# Altium schematic symbol library IMTP_AD.SchLib: 6 symbols
Pins are listed as number, name and electrical type; pins without a type are passive.

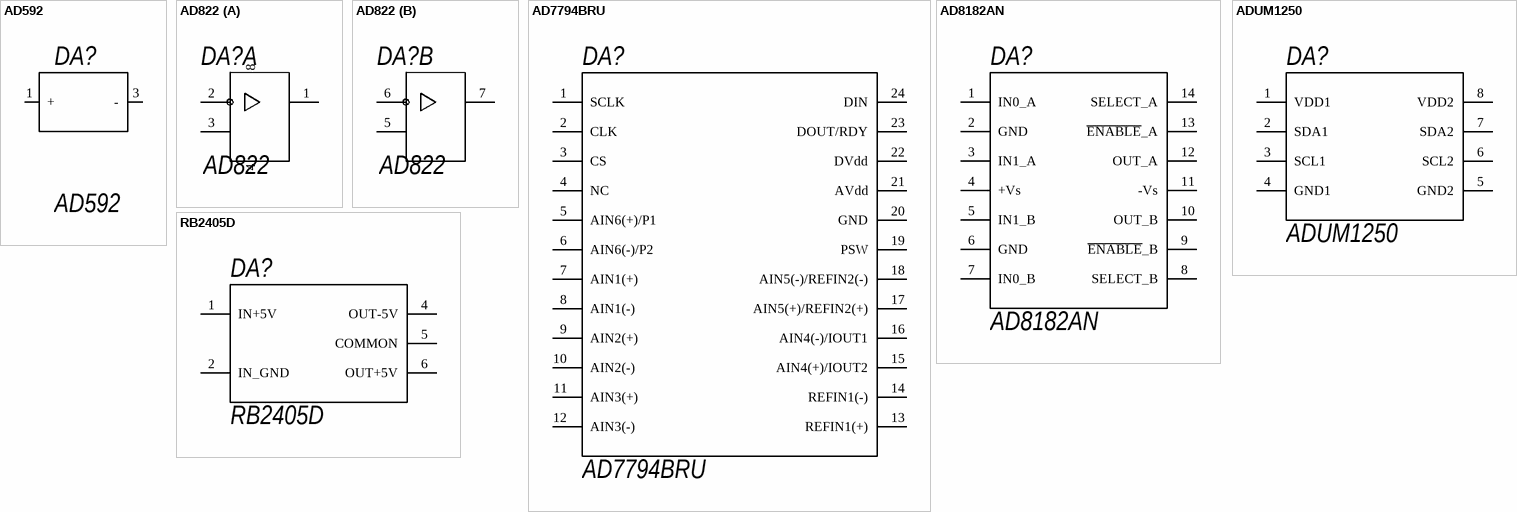
[diagram p0: symbols AD592 to RB2405D]

## AD592
designator DA?
Датчик температуры; LastRevisionDate: 25.03.2010; Name: AD592; OutComment: AD592; PackageDescription: TO-92; Publisher: IMTP FEB RAS
footprint TO-92 (TO, Flat Index; 3 In-Line, Axial Leads; Body Dia. 5.1mm; Leads 0.48 x 0.48 mm (max))
footprint FP
pins: 1 +, 2 NC hidden, 3 -

## AD822
designator DA?
6-Channel, Low Noise, Low Power, 24-Bit- ADC with On-Chip In-Amp and Reference; LastRevisionDate: 11.06.2010; Name: AD822; OutComment: AD822; PackageDescription: TSSOP-24; Publisher: IMTP FEB RAS
footprint SOJ-8
footprint MSOP (TSOP, 8-Leads, Body 3x3mm, Pitch 0.65mm, IPC High Density)
footprint DIP-8 (DIP; 8 Leads; Row Spacing 7.62 mm; Pitch 2.54 mm)
part A pins: 1, 2, 3, 4 (power), 8 (power)
part B pins: 5, 6, 7

## AD7794BRU
designator DA?
6-Channel, Low Noise, Low Power, 24-Bit- ADC with On-Chip In-Amp and Reference; LastRevisionDate: 11.06.2010; Name: AD7794BRU; OutComment: AD7794BRU; PackageDescription: TSSOP-24; Publisher: IMTP FEB RAS
footprint TSOP65P640-24AL (TSOP, 24-Leads, Body 7.8x4.4mm, Pitch 0.65mm, IPC High Density)
pins: 1 SCLK, 2 CLK, 3 CS, 4 NC, 5 AIN6(+)/P1, 6 AIN6(-)/P2, 7 AIN1(+), 8 AIN1(-), 9 AIN2(+), 10 AIN2(-), 11 AIN3(+), 12 AIN3(-), 13 REFIN1(+), 14 REFIN1(-), 15 AIN4(+)/IOUT2, 16 AIN4(-)/IOUT1, 17 AIN5(+)/REFIN2(+), 18 AIN5(-)/REFIN2(-), 19 PSW, 20 GND, 21 AVdd, 22 DVdd, 23 DOUT/RDY, 24 DIN

## AD8182AN
designator DA?
6-Channel, Low Noise, Low Power, 24-Bit- ADC with On-Chip In-Amp and Reference; LastRevisionDate: 20.10.2011; Name: AD8182AN; OutComment: AD8182AN; PackageDescription: TSSOP-16; Publisher: IMTP FEB RAS
footprint SOIC14_M (14-Pin Small Outline Integrated Circuit 1.27 mm Pitch, IPC Low Density)
pins: 1 IN0_A, 2 GND, 3 IN1_A, 4 +Vs, 5 IN1_B, 6 GND, 7 IN0_B, 8 SELECT_B, 9 ~{ENABLE}_B, 10 OUT_B, 11 -Vs, 12 OUT_A, 13 ~{ENABLE}_A, 14 SELECT_A

## ADUM1250
designator DA?
Hot Swappable, Dual I2C Isolators; LastRevisionDate: 26.04.2011; Name: ADUM1250; OutComment: ADUM1250; PackageDescription: SO-8; Publisher: IMTP FEB RAS
footprint SOJ-8
pins: 1 VDD1, 2 SDA1, 3 SCL1, 4 GND1, 5 GND2, 6 SCL2, 7 SDA2, 8 VDD2

## RB2405D
designator DA?
Hot Swappable, Dual I2C Isolators; LastRevisionDate: 26.04.2011; Name: RB2405D; OutComment: RB2405D; PackageDescription: SO-8; Publisher: IMTP FEB RAS
pins: 1 IN+5V, 2 IN_GND, 4 OUT-5V, 5 COMMON, 6 OUT+5V